# EAGLE library part SAMTEC_ESQ_132-TRIPLE (library Traficon)
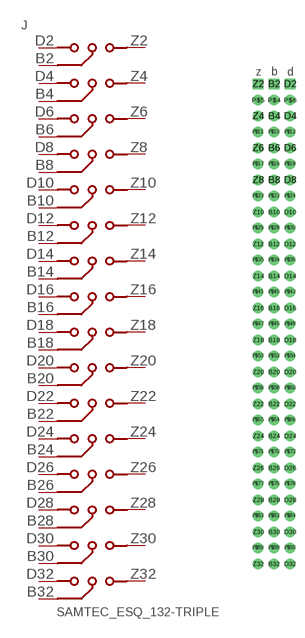
[diagram p230: symbol with the pads of SAMTEC_ESQ-132-TRIPLE; footprint SAMTEC_ESQ-132-TRIPLE]

Designator prefix J

## SAMTEC_ESQ_132-TRIPLE  [SAMTEC_ESQ-132-TRIPLE]
B2  2B
B4  4B
B6  6B
B8  8B
B10  10B
B12  12B
B14  14B
B16  16B
B18  18B
B20  20B
B22  22B
B24  24B
B26  26B
B28  28B
B30  30B
B32  32B
D2  2D
D4  4D
D6  6D
D8  8D
D10  10D
D12  12D
D14  14D
D16  16D
D18  18D
D20  20D
D22  22D
D24  24D
D26  26D
D28  28D
D30  30D
D32  32D
Z2  2Z
Z4  4Z
Z6  6Z
Z8  8Z
Z10  10Z
Z12  12Z
Z14  14Z
Z16  16Z
Z18  18Z
Z20  20Z
Z22  22Z
Z24  24Z
Z26  26Z
Z28  28Z
Z30  30Z
Z32  32Z

## Footprint SAMTEC_ESQ-132-TRIPLE (pad centres in mm)
drill 1.1 square: B2 0,38.1; D2 2.54,38.1; Z2 -2.54,38.1
drill 1.1 round: B4 0,33.02; B6 0,27.94; B8 0,22.86; B10 0,17.78; B12 0,12.7; B14 0,7.62; B16 0,2.54; B18 0,-2.54; B20 0,-7.62; B22 0,-12.7; B24 0,-17.78; B26 0,-22.86; B28 0,-27.94; B30 0,-33.02; B32 0,-38.1; D4 2.54,33.02; D6 2.54,27.94; D8 2.54,22.86; D10 2.54,17.78; D12 2.54,12.7; D14 2.54,7.62; D16 2.54,2.54; D18 2.54,-2.54; D20 2.54,-7.62; D22 2.54,-12.7; D24 2.54,-17.78; D26 2.54,-22.86; D28 2.54,-27.94; D30 2.54,-33.02; D32 2.54,-38.1; P$4 0,35.56; P$5 -2.54,35.56; P$6 2.54,35.56; P$10 0,30.48; P$11 -2.54,30.48; P$12 2.54,30.48; P$16 0,25.4; P$17 -2.54,25.4; P$18 2.54,25.4; P$22 0,20.32; P$23 -2.54,20.32; P$24 2.54,20.32; P$28 0,15.24; P$29 -2.54,15.24; P$30 2.54,15.24; P$34 0,10.16; P$35 -2.54,10.16; P$36 2.54,10.16; P$40 0,5.08; P$41 -2.54,5.08; P$42 2.54,5.08; P$46 0,0; P$47 -2.54,0; P$48 2.54,0; P$52 0,-5.08; P$53 -2.54,-5.08; P$54 2.54,-5.08; P$58 0,-10.16; P$59 -2.54,-10.16; P$60 2.54,-10.16; P$64 0,-15.24; P$65 -2.54,-15.24; P$66 2.54,-15.24; P$70 0,-20.32; P$71 -2.54,-20.32; P$72 2.54,-20.32; P$76 0,-25.4; P$77 -2.54,-25.4; P$78 2.54,-25.4; P$82 0,-30.48; P$83 -2.54,-30.48; P$84 2.54,-30.48; P$88 0,-35.56; P$89 -2.54,-35.56; P$90 2.54,-35.56; Z4 -2.54,33.02; Z6 -2.54,27.94; Z8 -2.54,22.86; Z10 -2.54,17.78; Z12 -2.54,12.7; Z14 -2.54,7.62; Z16 -2.54,2.54; Z18 -2.54,-2.54; Z20 -2.54,-7.62; Z22 -2.54,-12.7; Z24 -2.54,-17.78; Z26 -2.54,-22.86; Z28 -2.54,-27.94; Z30 -2.54,-33.02; Z32 -2.54,-38.1